# EAGLE library part POLOLU_DUAL_VNH5019_BAJA (library Pololo Dual VNH5019)
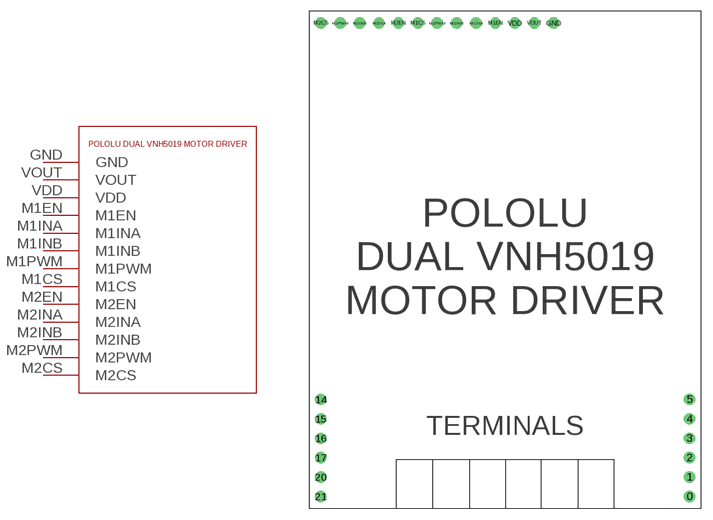
[diagram p1: symbol with the pads of POLOLU_DUAL_VNH5019_BAJA; footprint POLOLU_DUAL_VNH5019_BAJA]

Designator prefix -

## POLOLU_DUAL_VNH5019_BAJA  [POLOLU_DUAL_VNH5019_BAJA]
GND  GND
M1CS  M1CS
M1EN  M1EN
M1INA  M1INA
M1INB  M1INB
M1PWM  M1PWM
M2CS  M2CS
M2EN  M2EN
M2INA  M2INA
M2INB  M2INB
M2PWM  M2PWM
VDD  VDD
VOUT  VOUT

## Footprint POLOLU_DUAL_VNH5019_BAJA (pad centres in mm)
drill 0.965: 0 49.784,1.524; 1 49.784,4.064; 2 49.784,6.604; 3 49.784,9.144; 4 49.784,11.684; 5 49.784,14.224; 14 1.524,14.224; 15 1.524,11.684; 16 1.524,9.144; 17 1.524,6.604; 20 1.524,4.064; 21 1.524,1.524; GND 32.004,63.5; M1CS 14.224,63.5; M1EN 24.384,63.5; M1INA 21.844,63.5; M1INB 19.304,63.5; M1PWM 16.764,63.5; M2CS 1.524,63.5; M2EN 11.684,63.5; M2INA 9.144,63.5; M2INB 6.604,63.5; M2PWM 4.064,63.5; VDD 26.924,63.5; VOUT 29.464,63.5